# Altium schematic symbol library ESC_SYMBOLS.SchLib: 42 symbols (part 1 of 2)
Pins are listed as number, name and electrical type; pins without a type are passive.

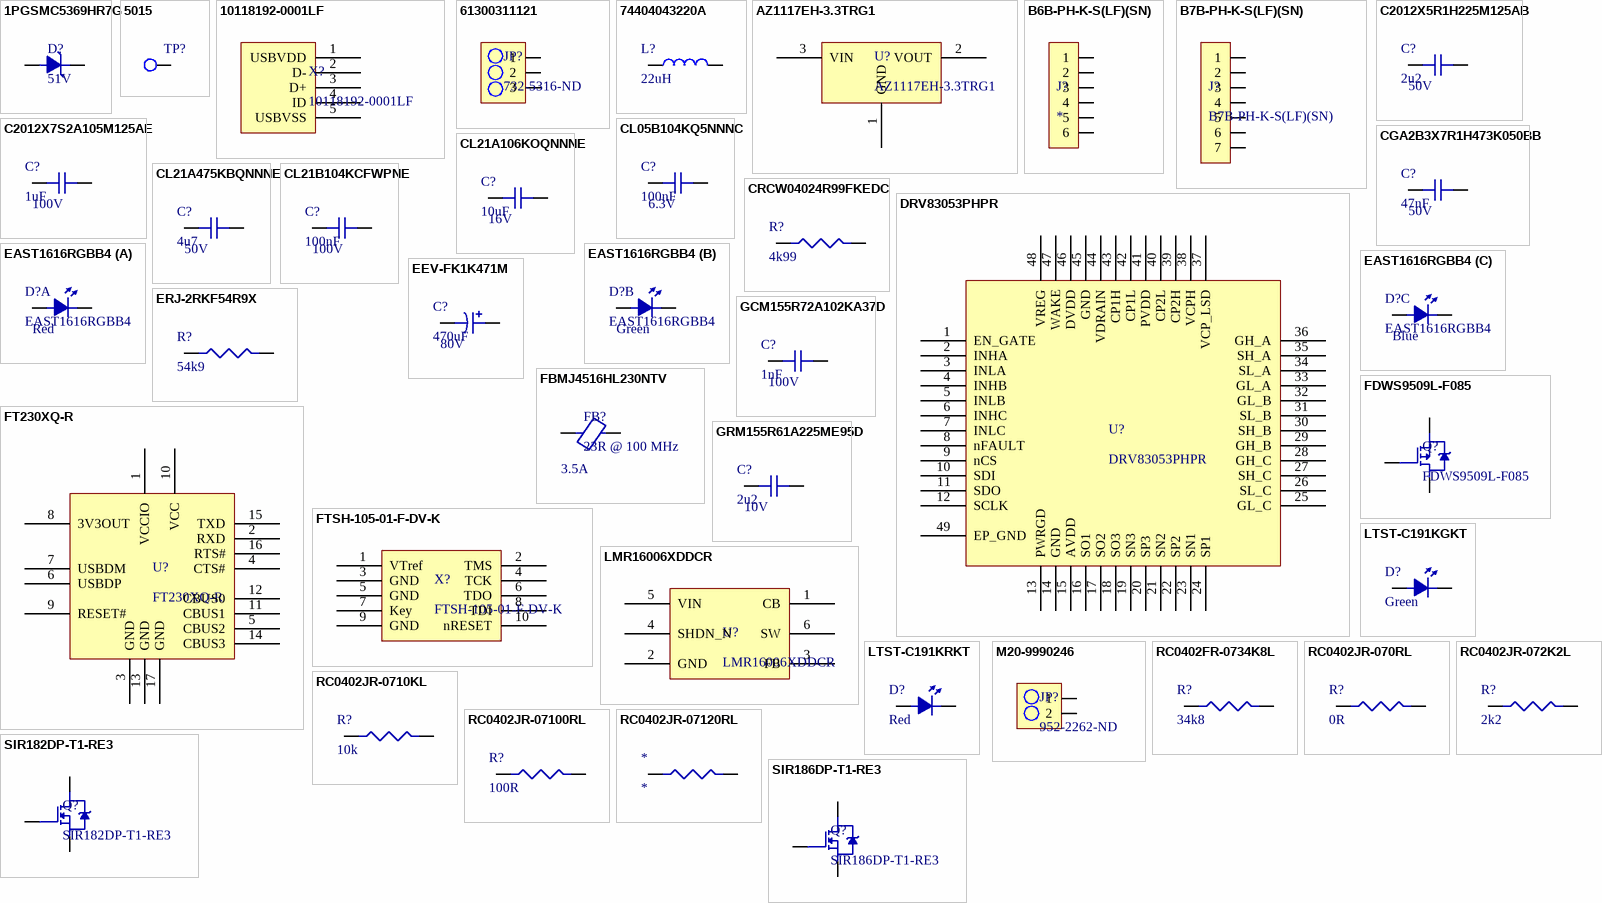
[diagram p0: symbols 1PGSMC5369HR7G to SIR186DP-T1-RE3]

## 1PGSMC5369HR7G
designator D?, comment 51V
DIODE ZENER 51V 5W; Manufacturer: Taiwan Semiconductor; Manufacturer Part Number: 1PGSMC5369HR7G; Supplier 1: Digikey; Stock 1: 1700; Pricing 1: 1=0.87, 10=0.765, 25=0.6772, 100=0.5899, 250=0.5134 (USD); Supplier Part Number 1: 1PGSMC5369HR7GCT-ND
footprint DO-214AB (Molded Diode, 2-Leads, Body 6.85x5.90mm, IPC Medium Density)
pins: 1, 2

## 5015
designator TP?  (value not drawn)
TEST POINT, PCB, SMT; Manufacturer: Keystone Electronics; Number of Ports: 1; Supplier 1: Digi-Key; Manufacturer Part Number: 5015; Stock 1: 1937775; Pricing 1: 1=0.44, 10=0.421, 25=0.3604, 50=0.3064, 100=0.2944, 250=0.2644, 500=0.2524 (USD); Mount: Surface Mount; Colour: White; Contact Material: Bronze; Contact Plating: Tin,Silver,Lead; Material: Bronze,Silver; Package Quantity: 1; Packaging: Tape and Reel; Termination: Solder; Orientation: Straight; Length: 2.66mm; Height: 0.06inch; Thickness: 0.01inch; Depth: 1.01mm; REACH SVHC: No SVHC; Lead Free: Lead Free; ComponentLink1URL: https://datasheet.ciiva.com/2917/5015-2917616.pdf; ComponentLink1Description: https://datasheet.ciiva.com/2917/5015-2917616.pdf; ComponentLink2URL: https://datasheet.ciiva.com/2917/5015-2917617.pdf; ComponentLink2Description: https://datasheet.ciiva.com/2917/5015-2917617.pdf; ComponentLink3URL: https://datasheet.ciiva.com/1123/5015-1123862.pdf; ComponentLink3Description: https://datasheet.ciiva.com/1123/5015-1123862.pdf; ComponentLink4URL: https://datasheet.ciiva.com/16883/70182998-16883734.pdf; ComponentLink4Description: https://datasheet.ciiva.com/16883/70182998-16883734.pdf; Supplier Part Number 1: 36-5015CT-ND
footprint TP_HOOK
pins: 1

## 10118192-0001LF
designator X?
CONN_USB - micro B USB 2.0 Receptacle Connector 5 Position Surface Mount, Right Angle, Horizontal; Manufacturer: Amphenol FCI; Current Rating: 1.8A; Connector Type: USB,Receptacle; Number of Contacts: 5; Insulation Resistance: 1GR; Number of Ports: 1; Max Voltage Rating (AC): 100V; USB Standard: USB 2.0; Pitch: 0.65mm; Supplier 1: Digi-Key; Manufacturer Part Number: 10118192-0001LF; Stock 1: 197826; Pricing 1: 1=0.46, 10=0.437, 25=0.3744, 50=0.318, 100=0.3056, 250=0.2744, 500=0.262 (USD); Mount: Surface Mount,Horizontal; Contact Material: Copper Alloy; Contact Plating: Nickel,Gold; Number of Terminals: 5; Housing Material: Polymer; Colour: Black; Min Operating Temperature: -55°C; Max Operating Temperature: 85°C; Packaging: Tape and Reel; Package Quantity: 1400; Gender: Receptacle; Termination: Solder; Voltage Rating: 100V; Orientation: Right Angle; Length: 7.86mm; Depth: 5.57mm; Radiation Hardening: No; REACH SVHC: No SVHC; Lead Free: Lead Free; Flammability Rating: UL94 V-0; ComponentLink1URL: https://datasheet.ciiva.com/26853/getdatasheetpartid-418041-26853891.pdf; ComponentLink1Description: https://datasheet.ciiva.com/26853/getdatasheetpartid-418041-26853891.pdf; ComponentLink2URL: https://datasheet.ciiva.com/851/10118192-851112.pdf; ComponentLink2Description: https://datasheet.ciiva.com/851/10118192-851112.pdf; ComponentLink3URL: https://datasheet.ciiva.com/4598/10118192ac-197249-4598796.pdf; ComponentLink3Description: https://datasheet.ciiva.com/4598/10118192ac-197249-4598796.pdf; Supplier Part Number 1: 609-4613-1-ND
footprint USB_MICRO
pins: 1 USBVDD, 2 D-, 3 D+, 4 ID, 5 USBVSS

## 61300311121
designator JP?, comment 732-5316-ND
CONN_HeaderPins3pos WURTH ELEKTRONIK Board-To-Board Connector, Vertical, WR-PHD Series, Through Hole, Header, 3 Contacts, 2.54 mm; Manufacturer: Wurth Electronics; Manufacturer Part Number: 61300311121; Number of Positions: 3; Gender: Male; Connector Type: Male Pin; Pitch: 0.1inch; Supplier 1: Digi-Key; Stock 1: 57026; Pricing 1: 1=0.13, 10=0.106, 25=0.088, 50=0.074, 100=0.067, 1000=0.061 (USD); Mount: Through Hole; Case/Package: 100; Contact Plating: Gold; Contact Material: Copper; Colour: Black; Number of Rows: 1; Packaging: Bulk; Termination: Solder; Number of Contacts: 3; Contact Mating Length: 0.236inch; REACH SVHC: Unknown; Lead Free: Lead Free; ComponentLink1URL: http://www.farnell.com/cad/1737268.pdf; ComponentLink1Description: http://www.farnell.com/cad/1737268.pdf; Supplier Part Number 1: 732-5316-ND
footprint 3PIN_HEADER
pins: 1, 2, 3

## 74404043220A
designator L?, comment 22uH
INDUCTOR SHIELDED; Manufacturer: Wurth Electronics; Manufacturer Part Number: 74404043220A; Supplier 1: Digi-Key; Stock 1: 12022; Pricing 1: 1=0.6, 50=0.4958, 100=0.3769, 1000=0.3273 (USD); Supplier Part Number 1: 732-10762-1-ND
footprint INDUCTOR (Precision Wire Wound Inductor, 2-Leads, Body 4.00x4.00mm, IPC Medium Density)
pins: 1, 2

## AZ1117EH-3.3TRG1
designator U?
IC LDO 3V3 1A Voltage Regulators LDO BJT HiCurr; Manufacturer: Diodes; Output Voltage: 3.3V; Dropout Voltage: 1.1V; Number of Regulators: 1; Max Input Voltage: 13V; Operating Supply Current: 3.5mA; Power Supply Rejection Ratio (PSRR): 70dB; Polarity: Positive; Accuracy: 1%; Reference Voltage: 1.262V; Supplier 1: Digi-Key; Manufacturer Part Number: AZ1117EH-3.3TRG1; Stock 1: 105343; Pricing 1: 1=0.43, 10=0.321, 100=0.1815, 500=0.1202, 1000=0.0922 (USD); Mount: Surface Mount; Case/Package: TO-261-4; Number of Pins: 3; Weight: 0.000282oz; Contact Plating: Tin; Min Operating Temperature: -40°C; Max Operating Temperature: 125°C; Packaging: Tape and Reel; Output Current: 1A; Number of Outputs: 1; Package Quantity: 4000; Quiescent Current: 3.5mA; Max Output Current: 1A; Lead Free: Lead Free; Supplier Part Number 1: AZ1117EH-3.3TRG1DICT-ND
footprint SOT223 (SOT223, 4-Leads, Body 6.50x7.00mm (avg), Pitch 2.30mm, IPC Medium Density)
pins: 1 GND, 2 VOUT, 3 VIN

## B6B-PH-K-S(LF)(SN)
designator J?
CONN JST PH 6 Positions Header, Shrouded Connector 0.079" (2.00mm) Through Hole Tin; Manufacturer Part Number: B6B-PH-K-S(LF)(SN); Number of Positions: 6; Connector Type: Male Pin; Contact Resistance: 20mR; Current Rating: 2A; Insulation Resistance: 1MR; Max Voltage Rating (AC): 100V; Gender: Male; Pitch: 2mm; Supplier 1: Digi-Key; Manufacturer: JST; Stock 1: 75035; Pricing 1: 1=0.33, 10=0.313, 100=0.2194, 500=0.1881, 1000=0.1567, 5000=0.1344, 10000=0.1254 (USD); Mount: Through Hole; Number of Pins: 6; Contact Plating: Copper,Tin; Colour: Natural; Contact Material: Brass,Tin; Housing Colour: White; Housing Material: Polyamide; Min Operating Temperature: -25°C; Max Operating Temperature: 85°C; Number of Rows: 1; Packaging: Bulk; Max Current Rating: 2A; Termination: Solder; Number of Contacts: 6; Orientation: Straight; Voltage Rating (AC): 100V; Voltage Rating: 100V; Fastening Type: Detent; Working Voltage: 100V; Number of Poles: 6; Length: 13.9mm; Height: 9.4mm; Width: 4.5mm; Depth: 4.5mm; Lead Pitch: 2mm; Contact Mating Length: 0.13inch; Lead Free: Lead Free; REACH SVHC: No SVHC; ComponentLink1URL: https://datasheet.ciiva.com/712/eph-712563.pdf; ComponentLink1Description: https://datasheet.ciiva.com/712/eph-712563.pdf; ComponentLink2URL: https://datasheet.ciiva.com/26894/getdatasheetpartid-639917-26894487.pdf; ComponentLink2Description: https://datasheet.ciiva.com/26894/getdatasheetpartid-639917-26894487.pdf; ComponentLink3URL: https://datasheet.ciiva.com/11747/0900766b8082f554-11747368.pdf; ComponentLink3Description: https://datasheet.ciiva.com/11747/0900766b8082f554-11747368.pdf; ComponentLink4URL: https://datasheet.ciiva.com/20207/523648-20207241.pdf; ComponentLink4Description: https://datasheet.ciiva.com/20207/523648-20207241.pdf; ComponentLink5URL: https://datasheet.ciiva.com/8052/80560-8052027.pdf; ComponentLink5Description: https://datasheet.ciiva.com/8052/80560-8052027.pdf; Supplier Part Number 1: 455-1708-ND
footprint JST-PH-6
pins: 1, 2, 3, 4, 5, 6

## B7B-PH-K-S(LF)(SN)
designator J?
CONN JST PH 7 Positions JST PH 2.00mm Shrouded Connector 0.079" (2.00mm) Through Hole Tin; Description: 7 Positions Header, Shrouded Connector 0.079" (2.00mm) Through Hole Tin; Number of Positions: 7; Connector Type: Male Pin; Current Rating: 2A; Contact Resistance: 10mR; Insulation Resistance: 1MR; Working Voltage: 100V; Gender: Male; Pitch: 2mm; Supplier 1: Digi-Key; Manufacturer: JST; Manufacturer Part Number: B7B-PH-K-S(LF)(SN); Stock 1: 40323; Pricing 1: 1=0.39, 10=0.37, 100=0.2587, 500=0.2218, 1000=0.1848, 5000=0.1584, 10000=0.1479 (USD); Mount: Through Hole; Number of Pins: 7; Contact Plating: Tin; Color: Natural; Contact Material: Brass,Tin; Housing Color: Natural; Number of Rows: 1; Packaging: Bulk; Termination: Solder; Fastening Type: Detent; Number of Contacts: 7; Orientation: Straight; Number of Poles: 7; Voltage Rating: 100V; Voltage Rating (AC): 100V; Length: 15.9mm; Height: 9.4mm; Width: 4.5mm; Lead Pitch: 2mm; Contact Mating Length: 0.13inch; REACH SVHC: No SVHC; Lead Free: Lead Free; ComponentLink1URL: http://www.jst-mfg.com/product/pdf/eng/ePH.pdf; ComponentLink1Description: http://www.jst-mfg.com/product/pdf/eng/ePH.pdf; ComponentLink2URL: http://www.farnell.com/cad/80560.pdf; ComponentLink2Description: http://www.farnell.com/cad/80560.pdf; ComponentLink3URL: http://www.produktinfo.conrad.com/datenblaetter/725000-749999/740103-da-01-en-STIFTLEISTE_GERADE_7_POL_RM2_0.pdf; ComponentLink3Description: http://www.produktinfo.conrad.com/datenblaetter/725000-749999/740103-da-01-en-STIFTLEISTE_GERADE_7_POL_RM2_0.pdf; Supplier Part Number 1: 455-1709-ND
footprint JST-PH-7
pins: 1, 2, 3, 4, 5, 6, 7

## C2012X5R1H225M125AB
designator C?, comment 2u2  Voltage Rating: 50V
CAP CER 2.2UF 50V X5R 0805; Manufacturer: TDK; Manufacturer Part Number: C2012X5R1H225M125AB; Dielectric Material: Ceramic; Tolerance: 20%; Supplier 1: Digi-Key; Stock 1: 2000; Pricing 1: 1=0.67, 10=0.472, 100=0.3105, 500=0.23, 1000=0.1955 (USD); Mount: Surface Mount; Case/Package: 0805; Weight: 0.000194oz; Case Code (Metric): 2012; Case Code (Imperial): 0805; Min Operating Temperature: -55°C; Max Operating Temperature: 85°C; Packaging: Tape and Reel; Capacitance: 2.2uF; Package Quantity: 1; Voltage Rating (DC): 50V; Dielectric: X5R; Termination: SMD/SMT; Composition: Ceramic; Length: 2mm; Height: 1.25mm; Width: 0.049inch; Thickness: 0.057inch; Depth: 1.25mm; Lead Free: Lead Free; ComponentLink1URL: https://datasheet.ciiva.com/6287/tdkmlcccaprange-6287511.pdf; ComponentLink1Description: https://datasheet.ciiva.com/6287/tdkmlcccaprange-6287511.pdf; ComponentLink2URL: https://datasheet.ciiva.com/6287/tdkmlcccaprange-6287514.pdf; ComponentLink2Description: https://datasheet.ciiva.com/6287/tdkmlcccaprange-6287514.pdf; ComponentLink3URL: https://datasheet.ciiva.com/6287/tdkmlcccaprange-6287516.pdf; ComponentLink3Description: https://datasheet.ciiva.com/6287/tdkmlcccaprange-6287516.pdf; ComponentLink4URL: https://datasheet.ciiva.com/24221/c2012x5r1h225m125ab-265113-24221566.pdf; ComponentLink4Description: https://datasheet.ciiva.com/24221/c2012x5r1h225m125ab-265113-24221566.pdf; Supplier Part Number 1: 445-5977-1-ND
footprint C0805 (Chip Capacitor, 2-Leads, Body 2.00x1.25mm, IPC Medium Density)
pins: 1, 2

## C2012X7S2A105M125AE
designator C?, comment 1uF  Voltage Rating: 100V
CAP CER 1UF 100V X7S 0805; Manufacturer: TDK; Manufacturer Part Number: C2012X7S2A105M125AE; Tolerance: 20%; Supplier 1: Digi-Key; Stock 1: 20000; Pricing 1: 1=0.5, 10=0.356, 100=0.2347, 500=0.1739, 1000=0.1478 (USD); Mount: Surface Mount; Case/Package: 0805; Weight: 0.000194oz; Case Code (Imperial): 0805; Case Code (Metric): 2012; Min Operating Temperature: -55°C; Max Operating Temperature: 125°C; Capacitance: 1uF; Voltage Rating (DC): 100V; Packaging: Tape and Reel; Package Quantity: 1; Dielectric: X7S; Termination: SMD/SMT; Composition: Ceramic; Length: 2mm; Height: 1.45mm; Width: 1.2mm; Thickness: 0.057inch; Lead Free: Lead Free; ComponentLink1URL: https://datasheet.ciiva.com/24216/c2012x7s2a105m125ae-265183-24216851.pdf; ComponentLink1Description: https://datasheet.ciiva.com/24216/c2012x7s2a105m125ae-265183-24216851.pdf; ComponentLink2URL: https://datasheet.ciiva.com/6287/mlcc-commercial-soft-en-6287845.pdf; ComponentLink2Description: https://datasheet.ciiva.com/6287/mlcc-commercial-soft-en-6287845.pdf; ComponentLink3URL: https://datasheet.ciiva.com/6287/mlcc-commercial-soft-en-6287849.pdf; ComponentLink3Description: https://datasheet.ciiva.com/6287/mlcc-commercial-soft-en-6287849.pdf; ComponentLink4URL: https://datasheet.ciiva.com/6287/mlcc-commercial-soft-en-6287854.pdf; ComponentLink4Description: https://datasheet.ciiva.com/6287/mlcc-commercial-soft-en-6287854.pdf; Supplier Part Number 1: 445-6804-1-ND
footprint C0805 (Chip Capacitor, 2-Leads, Body 2.00x1.25mm, IPC Medium Density)
pins: 1, 2

## CGA2B3X7R1H473K050BB
designator C?, comment 47nF  Voltage Rating: 50V
CAP CER 0.047uF 50 V,  10%, X7R, CGA Series; Manufacturer: TDK; Manufacturer Part Number: CGA2B3X7R1H473K050BB; Supplier 1: Digi-Key; Stock 1: 76108; Pricing 1: 1=0.13, 10=0.099, 100=0.0439, 500=0.0314, 1000=0.0247, 2500=0.0224, 5000=0.0206 (USD); Mount: Surface Mount; Case/Package: 0402; Weight: 2.3E-05oz; Case Code (Metric): 1005; Case Code (Imperial): 0402; Min Operating Temperature: -55°C; Max Operating Temperature: 125°C; Capacitance: 47nF; Tolerance: 10%; Voltage Rating (DC): 50V; Packaging: Tape and Reel; Package Quantity: 1; Dielectric: X7R; Termination: SMD/SMT; Composition: Ceramic; Length: 1mm; Height: 0.5mm; Width: 0.02inch; Thickness: 0.022inch; Depth: 0.5mm; Ratings: AEC-Q200; Radiation Hardening: No; REACH SVHC: No SVHC; Lead Free: Lead Free; Supplier Part Number 1: 445-6897-1-ND
footprint C0402 (Chip Capacitor, 2-Leads, Body 1.00x0.50mm, IPC Medium Density)
pins: 1, 2

## CL05B104KQ5NNNC
designator C?, comment 100nF  Voltage Rating: 6.3V
CAP CER 0.1uF 6.3V X7R 10% SMD 0402 125C Paper T/R; Manufacturer: Samsung; Manufacturer Part Number: CL05B104KQ5NNNC; Supplier 1: Digi-Key; Stock 1: 100000; Pricing 1: 1=0.1, 10=0.03, 100=0.0134, 500=0.0096, 1000=0.0075, 2500=0.0068, 5000=0.0063 (USD); Mount: Surface Mount; Case/Package: 0402; Case Code (Metric): 1005; Case Code (Imperial): 0402; Min Operating Temperature: -55°C; Max Operating Temperature: 125°C; Tolerance: 10%; Packaging: Tape and Reel; Capacitance: 100nF; Dielectric: X7R; Voltage Rating (DC): 6.3V; Length: 1mm; Height: 0.5mm; Width: 0.02inch; Thickness: 0.022inch; Depth: 0.5mm; Radiation Hardening: No; Lead Free: Lead Free; Supplier Part Number 1: 1276-1511-1-ND
footprint C0402 (Chip Capacitor, 2-Leads, Body 1.00x0.50mm, IPC Medium Density)
pins: 1, 2

## CL21A106KOQNNNE
designator C?, comment 10uF  Voltage Rating: 16V
CAP CER 10uF 16V X5R 10% SMD 0805 85C T/R; Manufacturer: Samsung; Manufacturer Part Number: CL21A106KOQNNNE; Dielectric: X7R; Supplier 1: Digi-Key; Stock 1: 20000; Pricing 1: 1=0.21, 10=0.148, 100=0.0698, 500=0.0489, 1000=0.0405 (USD); Mount: Surface Mount; Case/Package: 0805; Case Code (Metric): 2012; Case Code (Imperial): 0805; Min Operating Temperature: -55°C; Max Operating Temperature: 85°C; Package Quantity: 1; Packaging: Tape and Reel; Capacitance: 10uF; Tolerance: 10%; Voltage Rating (DC): 16V; Voltage: 16V; Length: 2mm; Height: 1.25mm; Width: 0.049inch; Thickness: 0.055inch; Depth: 1.25mm; Radiation Hardening: No; Lead Free: Lead Free; ComponentLink1URL: https://datasheet.ciiva.com/25798/cl21a106koqnnne-25798133.pdf; ComponentLink1Description: https://datasheet.ciiva.com/25798/cl21a106koqnnne-25798133.pdf; ComponentLink2URL: https://datasheet.ciiva.com/16740/cl05b104kq5nnnc-16740697.pdf; ComponentLink2Description: https://datasheet.ciiva.com/16740/cl05b104kq5nnnc-16740697.pdf; ComponentLink3URL: https://datasheet.ciiva.com/15216/getdatasheetpartid-358435-15216234.pdf; ComponentLink3Description: https://datasheet.ciiva.com/15216/getdatasheetpartid-358435-15216234.pdf; Supplier Part Number 1: 1276-1096-1-ND
footprint C0805 (Chip Capacitor, 2-Leads, Body 2.00x1.25mm, IPC Medium Density)
pins: 1, 2

## CL21A475KBQNNNE
designator C?, comment 4u7  Voltage Rating: 50V
CAP CER 4.7uF 50V X5R 10% SMD 0805 85C Embossed T/R; Manufacturer: Samsung; Manufacturer Part Number: CL21A475KBQNNNE; Supplier 1: Digi-Key; Stock 1: 20000; Pricing 1: 1=0.44, 10=0.309, 100=0.1854, 500=0.1391, 1000=0.1174 (USD); Mount: Surface Mount; Case/Package: 0805; Case Code (Metric): 2012; Case Code (Imperial): 0805; Min Operating Temperature: -55°C; Max Operating Temperature: 85°C; Tolerance: 10%; Packaging: Tape and Reel; Package Quantity: 1; Capacitance: 4.7uF; Dielectric: X5R; Length: 2mm; Width: 0.049inch; Thickness: 0.055inch; Depth: 1.25mm; Radiation Hardening: No; ComponentLink1URL: https://datasheet.ciiva.com/25797/cl21a475kbqnnne-25797730.pdf; ComponentLink1Description: https://datasheet.ciiva.com/25797/cl21a475kbqnnne-25797730.pdf; ComponentLink2URL: https://datasheet.ciiva.com/26838/getdatasheetpartid-470982-26838620.pdf; ComponentLink2Description: https://datasheet.ciiva.com/26838/getdatasheetpartid-470982-26838620.pdf; ComponentLink3URL: https://datasheet.ciiva.com/16428/cl21a475kbqnnne-16428877.pdf; ComponentLink3Description: https://datasheet.ciiva.com/16428/cl21a475kbqnnne-16428877.pdf; Supplier Part Number 1: 1276-1248-1-ND
footprint C0805 (Chip Capacitor, 2-Leads, Body 2.00x1.25mm, IPC Medium Density)
pins: 1, 2

## CL21B104KCFWPNE
designator C?, comment 100nF  Voltage Rating: 100V
CAP CER 0.10µF 100V Ceramic Capacitor X7R 0805 (2012 Metric) 0.079" L x 0.049" W (2.00mm x 1.25mm); Manufacturer: Samsung; Manufacturer Part Number: CL21B104KCFWPNE; Tolerance: 10%; Supplier 1: Digi-Key; Stock 1: 6000; Pricing 1: 1=0.17, 10=0.118, 100=0.0556, 500=0.039, 1000=0.0323 (USD); Mount: Surface Mount; Case/Package: 0805; Case Code (Metric): 2012; Case Code (Imperial): 0805; Min Operating Temperature: -55°C; Max Operating Temperature: 125°C; Packaging: Tape and Reel; Capacitance: 100nF; Length: 0.079inch; Width: 0.049inch; Thickness: 0.053inch; Supplier Part Number 1: 1276-6733-1-ND
footprint C0805 (Chip Capacitor, 2-Leads, Body 2.00x1.25mm, IPC Medium Density)
pins: 1, 2

## CRCW04024R99FKEDC
designator R?, comment 4k99
RES SMD 4.99K OHM 1/16W 0402; Manufacturer: Vishay; Manufacturer Part Number: CRCW04024R99FKEDC; Supplier 1: Digi-Key; Stock 1: 7980; Pricing 1: 1=0.1, 10=0.093, 100=0.0358, 1000=0.0157, 2500=0.0136, 5000=0.0122 (USD); Supplier Part Number 1: 541-4085-1-ND
footprint R0402 (Chip Resistor, 2-Leads, Body 1.00x0.50mm, IPC Medium Density)
pins: 1, 2

## DRV83053PHPR
designator U?
IC 3-Phase Gate Driver IC 4.4V to 45V 48-Pin HTQFP T/R; Manufacturer: Texas Instruments; Number of Drivers: 6; Number of Outputs: 1; Output Current: 80mA; Max Output Current: 1A; Supplier 1: Digi-Key; Manufacturer Part Number: DRV83053PHPR; Stock 1: 2033; Pricing 1: 1=5.04, 10=4.53, 100=3.7117, 500=3.1597 (USD); Mount: Surface Mount; Number of Pins: 48; Min Operating Temperature: -40°C; Max Operating Temperature: 125°C; Packaging: Cut Tape; Channel Type: 3-Phase; Type: Integrated Circuit (IC); Min Supply Voltage: 4.4V; Max Supply Voltage: 45V; REACH SVHC: No SVHC; Lead Free: Lead Free; ComponentLink1URL: http://www.ti.com/general/docs/lit/getliterature.tsp?genericPartNumber=DRV8305&&fileType=pdf; ComponentLink1Description: http://www.ti.com/general/docs/lit/getliterature.tsp?genericPartNumber=DRV8305&&fileType=pdf; ComponentLink2URL: http://www.ti.com/lit/pdf/slyb165; ComponentLink2Description: http://www.ti.com/lit/pdf/slyb165; ComponentLink3URL: http://www.farnell.com/datasheets/2075775.pdf; ComponentLink3Description: http://www.farnell.com/datasheets/2075775.pdf; Supplier Part Number 1: 296-42657-1-ND
footprint PQFP_EP-48 (TSQFP, 48-Leads, Body 7.00x7.00mm, Pitch 0.50mm, Thermal Pad 5.17x5.17mm, IPC Medium Density)
pins: 1 EN_GATE, 2 INHA, 3 INLA, 4 INHB, 5 INLB, 6 INHC, 7 INLC, 8 nFAULT, 9 nCS, 10 SDI, 11 SDO, 12 SCLK, 13 PWRGD, 14 GND, 15 AVDD, 16 SO1, 17 SO2, 18 SO3, 19 SN3, 20 SP3, 21 SN2, 22 SP2, 23 SN1, 24 SP1, 25 GL_C, 26 SL_C, 27 SH_C, 28 GH_C, 29 GH_B, 30 SH_B, 31 SL_B, 32 GL_B, 33 GL_A, 34 SL_A, 35 SH_A, 36 GH_A, 37 VCP_LSD, 38 VCPH, 39 CP2H, 40 CP2L, 41 PVDD, 42 CP1L, 43 CP1H, 44 VDRAIN, 45 GND, 46 DVDD, 47 WAKE, 48 VREG, 49 EP_GND

## EAST1616RGBB4
designator D?
LED TRICOLOR RED GREEN BLUE; Manufacturer: Everlight; Supplier 1: Digi-Key; Manufacturer Part Number: EAST1616RGBB4; Stock 1: 0; Supplier Part Number 1: 1080-1552-2-ND
footprint LED_TRICOLOR
part A pins: 1, 4
part B pins: 2, 4
part C pins: 3, 4
part A text: Red
part B text: Green
part C text: Blue

## EEV-FK1K471M
designator C?, comment 470uF  Voltage: 80V
Cap Aluminum Lytic 470uF 80V 20% (18 X 16.5mm) SMD 0.153 Ohm 917mA 2000h 105C T/R; Manufacturer: Panasonic; Manufacturer Part Number: EEV-FK1K471M; Dielectric Material: Aluminium; ESR (Equivalent Series Resistance): 153mR; Life (Hours): 2000Hour; Leakage Current: 3uA; Dissipation Factor: 0.08%; Supplier 1: Digi-Key; Stock 1: 18111; Pricing 1: 1=2.39, 10=1.93 (USD); Mount: Surface Mount,PCB; Case/Package: Radial; Number of Pins: 2; Min Operating Temperature: -55°C; Max Operating Temperature: 105°C; Capacitance: 470uF; Packaging: Tape and Reel; Package Quantity: 1; Tolerance: 20%; Voltage Rating: 80V; Voltage Rating (DC): 80V; Ripple Current: 917mA; Ripple Current (AC): 917mA; Impedance: 153mR; Termination: SMD/SMT; Diameter: 18mm; Length: 16.5mm; Height: 16.5mm; Height - Seated (Max): 0.65inch; Width: 1.2mm; Radiation Hardening: No; REACH SVHC: No SVHC; Lead Free: Lead Free; ComponentLink1URL: https://datasheet.ciiva.com/17533/aba0000ce120-17533511.pdf; ComponentLink1Description: https://datasheet.ciiva.com/17533/aba0000ce120-17533511.pdf; ComponentLink2URL: https://datasheet.ciiva.com/2984/aba0000ce120-2984088.pdf; ComponentLink2Description: https://datasheet.ciiva.com/2984/aba0000ce120-2984088.pdf; ComponentLink3URL: https://datasheet.ciiva.com/14603/70258115-14603897.pdf; ComponentLink3Description: https://datasheet.ciiva.com/14603/70258115-14603897.pdf; ComponentLink4URL: https://datasheet.ciiva.com/30158/eev-fkseries-30158795.pdf; ComponentLink4Description: https://datasheet.ciiva.com/30158/eev-fkseries-30158795.pdf; ComponentLink5URL: https://datasheet.ciiva.com/11783/0900766b80e4e8b0-11783532.pdf; ComponentLink5Description: https://datasheet.ciiva.com/11783/0900766b80e4e8b0-11783532.pdf; ComponentLink6URL: https://datasheet.ciiva.com/43485/1676921-43485532.pdf; ComponentLink6Description: https://datasheet.ciiva.com/43485/1676921-43485532.pdf; ComponentLink7URL: https://datasheet.ciiva.com/48483/aba0000ce120-48483340.pdf; ComponentLink7Description: https://datasheet.ciiva.com/48483/aba0000ce120-48483340.pdf; ComponentLink8URL: https://datasheet.ciiva.com/14606/70258115-14606333.pdf; ComponentLink8Description: https://datasheet.ciiva.com/14606/70258115-14606333.pdf; Supplier Part Number 1: PCE3496CT-ND
footprint CAPAE (Aluminum Electrolytic Capacitor, Body 19.00x19.00x17.00mm, IPC Low Density)
pins: 1, 2

## ERJ-2RKF54R9X
designator R?, comment 54k9
RES SMD 54.9K OHM 1/10W 0402 54.9 Ohm 1% 0.1W(1/10W) ±100ppm/C Molded SMD Automotive Punched T/R; Manufacturer: Panasonic; Manufacturer Part Number: ERJ-2RKF54R9X; Resistance: 54.9R; Power Rating: 100mW; Voltage Rating: 50V; Temperature Coefficient: 100ppm/°C; Supplier 1: Digi-Key; Stock 1: 343302; Pricing 1: 1=0.1, 10=0.056, 100=0.0227, 1000=0.0102, 2500=0.0089, 5000=0.0073 (USD); Mount: Surface Mount; Case/Package: 0402; Case Code (Metric): 1005; Case Code (Imperial): 0402; Contact Plating: Tin; Min Operating Temperature: -55°C; Max Operating Temperature: 155°C; Tolerance: 1%; Packaging: Tape and Reel; Package Quantity: 1; Composition: Thick Film; Number of Terminations: 2; Termination: SMD/SMT; Military Standard: Not; Max Power Dissipation: 100mW; Voltage Rating (DC): 50V; Features: Automotive AEC-Q200; Length: 1mm; Height: 0.016inch; Width: 0.02inch; Depth: 0.5mm; REACH SVHC: No SVHC; Lead Free: Lead Free; Supplier Part Number 1: P54.9LCT-ND
footprint R0402 (Chip Resistor, 2-Leads, Body 1.00x0.50mm, IPC Medium Density)
pins: 1, 2

## FBMJ4516HL230NTV
designator FB?, comment 23R @ 100 MHz  Max Current Rating: 3.5A
FERRITE BEAD Ind Chip Bead Multi-Layer 23Ohm 30% 100MHz Ferrite 3.5A 1806 T/R; Manufacturer: Taiyo Yuden; Manufacturer Part Number: FBMJ4516HL230NTV; Resistance: 180623R; Number of Lines: 1; DC Resistance (DCR): 14mR; Supplier 1: Digi-Key; Stock 1: 1819; Pricing 1: 1=0.26, 10=0.202, 25=0.1676, 50=0.1444, 100=0.1299, 250=0.1097, 500=0.0982, 1000=0.0837 (USD); Mount: Surface Mount; Case/Package: 1806; Core Material: Ferrite; Case Code (Metric): 4516; Case Code (Imperial): 1806; Min Operating Temperature: -40°C; Max Operating Temperature: 125°C; Tolerance: 30%; Impedance: 23R; Package Quantity: 2000; Packaging: Tape and Reel; Max DC Current: 3.5A; Termination: SMD/SMT; Test Frequency: 100MHz; Length: 0.177inch; Height: 1.1mm; Width: 1.6mm; Depth: 1.6mm; ComponentLink1URL: http://www.mouser.com/ds/2/396/chipbeads01_e-559265.pdf; ComponentLink1Description: http://www.mouser.com/ds/2/396/chipbeads01_e-559265.pdf; ComponentLink2URL: http://ds.yuden.co.jp/TYCOMPAS/ut/detail.do?productNo=FBMJ4516HL230NTV&fileName=FBMJ4516HL230NTV_SS&mode=specSheetDownload; ComponentLink2Description: http://ds.yuden.co.jp/TYCOMPAS/ut/detail.do?productNo=FBMJ4516HL230NTV&fileName=FBMJ4516HL230NTV_SS&mode=specSheetDownload; ComponentLink3URL: https://www.yuden.co.jp/ut/product/category/emisuppression/FBMJ4516HL230NTV_SS.pdf; ComponentLink3Description: https://www.yuden.co.jp/ut/product/category/emisuppression/FBMJ4516HL230NTV_SS.pdf; Supplier Part Number 1: 587-3857-1-ND
footprint FB_1806 (Chip Inductor, 2-Leads, Body 4.50x1.60mm, IPC Medium Density)
pins: 1, 2

## FDWS9509L-F085
designator Q?
MOSFET P-CH PWR56 40V 8 MOHM; Manufacturer: ON Semiconductor; Supplier 1: Digi-Key; Manufacturer Part Number: FDWS9509L-F085; Stock 1: 2417; Pricing 1: 1=1.76, 10=1.562, 100=1.2344, 500=0.9573, 1000=0.7558 (USD); Supplier Part Number 1: FDWS9509L-F085OSCT-ND
footprint SO-8 PowerPAK
pins: 1, 2, 3

## FT230XQ-R
designator U?
IC USB SERIAL BASIC UART 16QFN; Manufacturer: FTDI; Operating Supply Voltage: 5V; Data Rate: 12Mbps; Number of Channels: 1; Max Supply Voltage: 5.5V; Min Supply Voltage: 2.97V; Interface: USB,UART; Operating Supply Current: 8mA; Supplier 1: Digi-Key; Manufacturer Part Number: FT230XQ-R; Stock 1: 185744; Pricing 1: 1=2.04, 25=1.97, 100=1.9, 250=1.71, 500=1.54, 1000=1.4806 (USD); Mount: Surface Mount; Case/Package: QFN; Number of Pins: 16; Weight: 0.002014oz; Min Operating Temperature: -40°C; Max Operating Temperature: 85°C; Packaging: Tape and Reel; Package Quantity: 5000; Length: 4mm; Height: 0.75mm; Width: 4mm; Lead Free: Lead Free; ComponentLink1URL: https://datasheet.ciiva.com/16213/ds-ft230x-16213755.pdf; ComponentLink1Description: https://datasheet.ciiva.com/16213/ds-ft230x-16213755.pdf; ComponentLink2URL: https://datasheet.ciiva.com/48909/70403914-48909084.pdf; ComponentLink2Description: https://datasheet.ciiva.com/48909/70403914-48909084.pdf; ComponentLink3URL: https://datasheet.ciiva.com/1787/ft-x-series-1787309.pdf; ComponentLink3Description: https://datasheet.ciiva.com/1787/ft-x-series-1787309.pdf; ComponentLink4URL: https://datasheet.ciiva.com/1787/ft-x-series-1787310.pdf; ComponentLink4Description: https://datasheet.ciiva.com/1787/ft-x-series-1787310.pdf; ComponentLink5URL: https://datasheet.ciiva.com/1787/ft-x-series-1787311.pdf; ComponentLink5Description: https://datasheet.ciiva.com/1787/ft-x-series-1787311.pdf; ComponentLink6URL: https://datasheet.ciiva.com/30478/0900766b811020cb-30478159.pdf; ComponentLink6Description: https://datasheet.ciiva.com/30478/0900766b811020cb-30478159.pdf; Supplier Part Number 1: 768-1130-1-ND
footprint QFN_EP-16 (QFN, 16-Leads, Body 4.00x4.00mm, Pitch 0.65mm, Thermal Pad 2.10x2.10mm, IPC Medium Density)
pins: 1 VCCIO, 2 RXD, 3 GND, 4 CTS#, 5 CBUS2, 6 USBDP, 7 USBDM, 8 3V3OUT, 9 RESET#, 10 VCC, 11 CBUS1, 12 CBUS0, 13 GND, 14 CBUS3, 15 TXD, 16 RTS#, 17 GND

## FTSH-105-01-F-DV-K
designator X?
CONN_JTAG_10pin .050 Connector Dual Header 10 Position Surface Mount; Manufacturer: Samtec; Max Current Rating: 1.75A; Number of Positions: 10; Connector Type: Male Pin; Pitch: 1.27mm; Row Spacing: 0.05inch; Supplier 1: Digi-Key; Manufacturer Part Number: FTSH-105-01-F-DV-K; Stock 1: 18199; Pricing 1: 1=2.9, 10=2.784, 100=2.32, 500=1.972, 1000=1.682, 5000=1.508 (USD); Mount: Surface Mount; Contact Material: Bronze,Copper; Contact Plating: Nickel,Gold; Colour: Black; Housing Colour: Black; Housing Material: Polymer; Min Operating Temperature: -55°C; Max Operating Temperature: 125°C; Number of Rows: 2; Packaging: Rail/Tube; Package Quantity: 1; Termination: Solder; Number of Contacts: 10; Orientation: Straight; Length: 15.2mm; Height: 3.3mm; Contact Mating Length: 0.12inch; Depth: 3.43mm; Radiation Hardening: No; Lead Free: Lead Free; ComponentLink1URL: https://datasheet.ciiva.com/19461/2046846-19461026.pdf; ComponentLink1Description: https://datasheet.ciiva.com/19461/2046846-19461026.pdf; ComponentLink2URL: https://datasheet.ciiva.com/738/ftsh-1xx-xx-xxx-dv-xxx-mkt-738998.pdf; ComponentLink2Description: https://datasheet.ciiva.com/738/ftsh-1xx-xx-xxx-dv-xxx-mkt-738998.pdf; ComponentLink3URL: https://datasheet.ciiva.com/10245/ftsh-mt-10245273.pdf; ComponentLink3Description: https://datasheet.ciiva.com/10245/ftsh-mt-10245273.pdf; ComponentLink4URL: https://datasheet.ciiva.com/16657/ftsh-mt-16657371.pdf; ComponentLink4Description: https://datasheet.ciiva.com/16657/ftsh-mt-16657371.pdf; ComponentLink5URL: https://datasheet.ciiva.com/15195/getdatasheetpartid-133463-15195260.pdf; ComponentLink5Description: https://datasheet.ciiva.com/15195/getdatasheetpartid-133463-15195260.pdf; Supplier Part Number 1: SAM8796-ND
footprint JTAG_50mil_10pin
pins: 1 VTref, 2 TMS, 3 GND, 4 TCK, 5 GND, 6 TDO, 7 Key, 8 TDI, 9 GND, 10 nRESET

## GCM155R72A102KA37D
designator C?, comment 1nF  Voltage: 100V
CAP CER 1000PF 100V X7R 0402; Manufacturer: Murata; Manufacturer Part Number: GCM155R72A102KA37D; Tolerance: 10%; Supplier 1: Digi-Key; Stock 1: 100000; Pricing 1: 1=0.1, 10=0.058, 100=0.026, 500=0.0186, 1000=0.0146, 2500=0.0133, 5000=0.0122 (USD); Mount: Surface Mount; Case/Package: 0402; Case Code (Metric): 1005; Case Code (Imperial): 0402; Min Operating Temperature: -55°C; Max Operating Temperature: 125°C; Package Quantity: 1; Capacitance: 1nF; Voltage Rating: 100V; Packaging: Tape and Reel; Dielectric: X7R; Voltage Rating (DC): 100V; Termination: SMD/SMT; Length: 1mm; Height: 0.5mm; Width: 0.02inch; Thickness: 0.022inch; Depth: 0.5mm; Ratings: AEC-Q200; Radiation Hardening: No; REACH SVHC: No SVHC; Supplier Part Number 1: 490-4764-1-ND
footprint C0402 (Chip Capacitor, 2-Leads, Body 1.00x0.50mm, IPC Medium Density)
pins: 1, 2

## GRM155R61A225ME95D
designator C?, comment 2u2  Voltage Rating: 10V
CAP CER 2.2uF 10V X5R 20% SMD 0402 85C Paper T/R; Manufacturer: Murata; Manufacturer Part Number: GRM155R61A225ME95D; Supplier 1: Digi-Key; Stock 1: 100000; Pricing 1: 1=0.13, 10=0.096, 100=0.045, 500=0.0316, 1000=0.0261, 2500=0.0243, 5000=0.0223 (USD); Mount: Surface Mount; Case/Package: 0402; Case Code (Metric): 1005; Case Code (Imperial): 0402; Min Operating Temperature: -55°C; Max Operating Temperature: 85°C; Tolerance: 20%; Packaging: Tape and Reel; Dielectric: X5R; Capacitance: 2.2uF; Voltage Rating (DC): 10V; Length: 0.039inch; Width: 0.02inch; Thickness: 0.022inch; Depth: 0.5mm; Supplier Part Number 1: 490-10452-1-ND
footprint C0402 (Chip Capacitor, 2-Leads, Body 1.00x0.50mm, IPC Medium Density)
pins: 1, 2

## LMR16006XDDCR
designator U?
IC BUCK 3V3 REGULATOR 0.6A Conv DC-DC 1-OUT Step Down 4V 60V 6-Pin SOT T/R; Manufacturer: Texas Instruments; Number of Outputs: 1; Output Voltage: 55V; Max Output Current: 600mA; Min Output Voltage: 765mV; Switching Frequency: 700kHz; Synchronous Rectifier: No; Quiescent Current: 28uA; Supplier 1: Digi-Key; Manufacturer Part Number: LMR16006XDDCR; Stock 1: 5; Pricing 1: 1=2.88, 10=2.589, 100=2.121, 500=1.8055, 1000=1.5228 (USD); Mount: Surface Mount; Case/Package: SOT-23-6; Number of Pins: 6; Contact Plating: Nickel,Gold; Min Operating Temperature: -40°C; Max Operating Temperature: 125°C; Min Input Voltage: 4V; Max Input Voltage: 60V; Packaging: Tape and Reel; Max Output Voltage: 55V; Output Current: 600mA; Operating Supply Voltage: 60V; REACH SVHC: No SVHC; Lead Free: Lead Free; Supplier Part Number 1: 296-40293-1-ND
footprint SOT23-6_Lead (SOT23, 6-Leads, Body 2.90x2.80mm, Pitch 0.95mm, IPC Medium Density)
pins: 1 CB, 2 GND, 3 FB, 4 SHDN_N, 5 VIN, 6 SW

## LTST-C191KGKT
designator D?, comment Green
LED GREEN CLEAR 0603 SMD; Manufacturer: Vishay Lite-On; Manufacturer Part Number: LTST-C191KGKT; Lens Colour: Clear,Colorless; Power Rating: 75mW; Luminous Intensity: 35mcd; Viewing Angle: 130°; Lens Style: Clear,Diffused,Colorless,Rectangular; Forward Current: 30mA; Forward Voltage: 2V; Dominant Wavelength: 571nm; Test Current: 20mA; Number of Elements: 1; Wavelength: 574nm; Supplier 1: Digi-Key; Stock 1: 1301664; Pricing 1: 1=0.29, 10=0.211, 25=0.1556, 100=0.1111, 250=0.0756, 500=0.0667, 1000=0.0522, 2500=0.0511 (USD); Mount: Surface Mount; Case/Package: 0603; Number of Pins: 2; Colour: Green; Case Code (Metric): 1608; Case Code (Imperial): 0603; Min Operating Temperature: -55°C; Max Operating Temperature: 85°C; Packaging: Tape and Reel; Package Quantity: 1; Illumination Colour: Green; Lens Transparency: Clear; Power Dissipation: 75mW; Number of LEDs: 1; Length: 1.6mm; Height: 0.55mm; Width: 0.8mm; Depth: 0.8mm; Radiation Hardening: No; Lead Free: Lead Free; ComponentLink1URL: https://datasheet.ciiva.com/12400/100-ltst-c191kgkt-53586-12400818.pdf; ComponentLink1Description: https://datasheet.ciiva.com/12400/100-ltst-c191kgkt-53586-12400818.pdf; ComponentLink2URL: https://datasheet.ciiva.com/2109/s-110-ltst-c191kgkt-2109973.pdf; ComponentLink2Description: https://datasheet.ciiva.com/2109/s-110-ltst-c191kgkt-2109973.pdf; ComponentLink3URL: https://datasheet.ciiva.com/2109/s-110-ltst-c191kgkt-2109974.pdf; ComponentLink3Description: https://datasheet.ciiva.com/2109/s-110-ltst-c191kgkt-2109974.pdf; ComponentLink4URL: https://datasheet.ciiva.com/2109/s-110-ltst-c191kgkt-2109975.pdf; ComponentLink4Description: https://datasheet.ciiva.com/2109/s-110-ltst-c191kgkt-2109975.pdf; ComponentLink5URL: https://datasheet.ciiva.com/15223/getdatasheetpartid-103913-15223276.pdf; ComponentLink5Description: https://datasheet.ciiva.com/15223/getdatasheetpartid-103913-15223276.pdf; ComponentLink6URL: https://datasheet.ciiva.com/11773/0900766b80dc02b1-11773629.pdf; ComponentLink6Description: https://datasheet.ciiva.com/11773/0900766b80dc02b1-11773629.pdf; ComponentLink7URL: https://datasheet.ciiva.com/16215/ltst-c191kgkt-16215151.pdf; ComponentLink7Description: https://datasheet.ciiva.com/16215/ltst-c191kgkt-16215151.pdf; Supplier Part Number 1: 160-1446-6-ND
footprint LED_0603
pins: 1, 2

## LTST-C191KRKT
designator D?, comment Red
LED RED CLEAR 0603 SMD; Manufacturer: Vishay Lite-On; Manufacturer Part Number: LTST-C191KRKT; Lens Colour: Colorless; Power Rating: 75mW; Luminous Intensity: 54mcd; Viewing Angle: 130°; Forward Voltage: 2V; Lens Style: Clear,Diffused,Colorless,Rectangular; Forward Current: 30mA; Dominant Wavelength: 631nm; Test Current: 20mA; Number of Elements: 1; Wavelength: 639nm; Reverse Voltage: 5V; Supplier 1: Digi-Key; Stock 1: 684119; Pricing 1: 1=0.29, 10=0.211, 25=0.1556, 100=0.1111, 250=0.0756, 500=0.0667, 1000=0.0522, 2500=0.0511 (USD); Mount: Surface Mount; Case/Package: 0603; Number of Pins: 2; Colour: Red; Case Code (Metric): 1608; Case Code (Imperial): 0603; Min Operating Temperature: -55°C; Max Operating Temperature: 85°C; Packaging: Tape and Reel; Package Quantity: 1; Illumination Colour: Red; Lens Transparency: Clear; Power Dissipation: 75mW; Number of LEDs: 1; Voltage: 2V; Length: 1.6mm; Height: 0.55mm; Width: 0.8mm; Depth: 0.8mm; Radiation Hardening: No; Lead Free: Lead Free; ComponentLink1URL: https://datasheet.ciiva.com/11773/0900766b80dc02b2-11773601.pdf; ComponentLink1Description: https://datasheet.ciiva.com/11773/0900766b80dc02b2-11773601.pdf; ComponentLink2URL: https://datasheet.ciiva.com/2109/s-110-ltst-c191krkt-2109970.pdf; ComponentLink2Description: https://datasheet.ciiva.com/2109/s-110-ltst-c191krkt-2109970.pdf; ComponentLink3URL: https://datasheet.ciiva.com/2109/s-110-ltst-c191krkt-2109971.pdf; ComponentLink3Description: https://datasheet.ciiva.com/2109/s-110-ltst-c191krkt-2109971.pdf; ComponentLink4URL: https://datasheet.ciiva.com/16212/ltst-c191krkt-16212419.pdf; ComponentLink4Description: https://datasheet.ciiva.com/16212/ltst-c191krkt-16212419.pdf; ComponentLink5URL: https://datasheet.ciiva.com/2109/s-110-ltst-c191krkt-2109972.pdf; ComponentLink5Description: https://datasheet.ciiva.com/2109/s-110-ltst-c191krkt-2109972.pdf; ComponentLink6URL: https://datasheet.ciiva.com/15117/getdatasheetpartid-141922-15117737.pdf; ComponentLink6Description: https://datasheet.ciiva.com/15117/getdatasheetpartid-141922-15117737.pdf; ComponentLink7URL: https://datasheet.ciiva.com/12400/lite-on-ltst-c191krkt-190135-12400910.pdf; ComponentLink7Description: https://datasheet.ciiva.com/12400/lite-on-ltst-c191krkt-190135-12400910.pdf; Supplier Part Number 1: 160-1447-1-ND
footprint LED_0603
pins: 1, 2

## M20-9990246
designator JP?, comment 952-2262-ND
CONN_HeaderPins2pos Headers & Wire Housings 02 SIL VERTICAL PIN HEADER TIN; Manufacturer: Harwin; Manufacturer Part Number: M20-9990246; Contact Resistance: 30mR; Max Current Rating: 3A; Number of Positions: 2; Gender: Male; Connector Type: Male Pin; Insulation Resistance: 10GR; Voltage Rating (AC): 750V; Pitch: 2.54mm; Supplier 1: Digi-Key; Stock 1: 53577; Pricing 1: 1=0.11, 10=0.099, 100=0.0609, 500=0.0504, 1000=0.0441, 5000=0.0378, 10000=0.0368 (USD); Case/Package: SIL; Colour: Black; Housing Colour: Black; Housing Material: Nylon; Contact Plating: Tin; Contact Material: Bronze,Brass; Min Operating Temperature: -40°C; Max Operating Temperature: 105°C; Package Quantity: 1000; Packaging: Bulk; Termination: Solder; Number of Rows: 1; Number of Contacts: 2; Orientation: Straight; Current Rating: 3A; Length: 5.08mm; Depth: 2.54mm; Contact Mating Length: 0.24inch; Radiation Hardening: No; REACH SVHC: No SVHC; ComponentLink1URL: https://datasheet.ciiva.com/8046/315376-8046930.pdf; ComponentLink1Description: https://datasheet.ciiva.com/8046/315376-8046930.pdf; ComponentLink2URL: https://datasheet.ciiva.com/6833/m20-999-6833368.pdf; ComponentLink2Description: https://datasheet.ciiva.com/6833/m20-999-6833368.pdf; ComponentLink3URL: https://datasheet.ciiva.com/11745/0900766b81034e61-11745755.pdf; ComponentLink3Description: https://datasheet.ciiva.com/11745/0900766b81034e61-11745755.pdf; ComponentLink4URL: https://datasheet.ciiva.com/22660/1830818-22660571.pdf; ComponentLink4Description: https://datasheet.ciiva.com/22660/1830818-22660571.pdf; ComponentLink5URL: https://datasheet.ciiva.com/26852/getdatasheetpartid-384170-26852203.pdf; ComponentLink5Description: https://datasheet.ciiva.com/26852/getdatasheetpartid-384170-26852203.pdf; Supplier Part Number 1: 952-2262-ND
footprint 2PIN_HEADER
pins: 1, 2

## RC0402FR-0734K8L
designator R?, comment 34k8
RES SMD 34.8K OHM 1% 1/16W 0402; Manufacturer: Yageo; Manufacturer Part Number: RC0402FR-0734K8L; Resistance: 34.8kR; Power Rating: 62.5mW; Voltage Rating: 50V; Temperature Coefficient: 100ppm/°C; Max Power Dissipation: 63mW; Supplier 1: Digi-Key; Stock 1: 29900; Pricing 1: 1=0.1, 10=0.018, 100=0.0073, 1000=0.0033, 2500=0.0029, 5000=0.0024 (USD); Case/Package: 0402; Case Code (Imperial): 0402; Case Code (Metric): 1005; Contact Plating: Matte,Tin; Min Operating Temperature: -55°C; Max Operating Temperature: 155°C; Tolerance: 1%; Packaging: Tape and Reel; Composition: Thick Film; Number of Terminations: 2; Termination: SMD/SMT; Military Standard: Not; Voltage Rating (DC): 50V; Features: Moisture Resistant; Length: 1mm; Height: 0.016inch; Width: 0.02inch; Depth: 0.5mm; Lead Free: Lead Free; Supplier Part Number 1: YAG3125CT-ND
footprint R0402 (Chip Resistor, 2-Leads, Body 1.00x0.50mm, IPC Medium Density)
pins: 1, 2

## RC0402JR-070RL
designator R?, comment 0R
RES SMD 0 OHM 1/16W 0402; Manufacturer: Yageo; Manufacturer Part Number: RC0402JR-070RL; Resistance: 0mR; Power Rating: 62.5mW; Tolerance: 5%; Voltage Rating: 50V; Max Power Dissipation: 63mW; Temperature Coefficient: 200ppm/°C; Supplier 1: Digi-Key; Stock 1: 44333412; Pricing 1: 1=0.1, 10=0.017, 25=0.0124, 50=0.0096, 100=0.007, 250=0.0054, 500=0.0043, 1000=0.0032, 5000=0.0023 (USD); Case/Package: 0402; Contact Plating: Matte,Tin; Case Code (Metric): 1005; Case Code (Imperial): 0402; Min Operating Temperature: -55°C; Max Operating Temperature: 155°C; Packaging: Tape and Reel; Composition: Thick Film; Package Quantity: 1; Number of Terminations: 2; Termination: SMD/SMT; Military Standard: Not; Features: Moisture Resistant; Length: 1mm; Height: 0.016inch; Width: 0.02inch; Depth: 0.5mm; Radiation Hardening: No; REACH SVHC: Unknown; Lead Free: Lead Free; Supplier Part Number 1: 311-0.0JRCT-ND
footprint R0402 (Chip Resistor, 2-Leads, Body 1.00x0.50mm, IPC Medium Density)
pins: 1, 2

## RC0402JR-072K2L
designator R?, comment 2k2
RES SMD 2.2K OHM 5% 1/16W 0402; Manufacturer: Yageo; Manufacturer Part Number: RC0402JR-072K2L; Resistance: 2.2kR; Power Rating: 63mW; Voltage Rating: 50V; Temperature Coefficient: 100ppm/°C; Supplier 1: Digi-Key; Stock 1: 7890813; Pricing 1: 1=0.1, 10=0.018, 100=0.0073, 1000=0.0033, 2500=0.0029, 5000=0.0024 (USD); Case/Package: 0402; Weight: 2.3E-05oz; Case Code (Metric): 1005; Case Code (Imperial): 0402; Min Operating Temperature: -55°C; Max Operating Temperature: 155°C; Tolerance: 5%; Packaging: Tape and Reel; Composition: Thick Film; Termination: SMD/SMT; Military Standard: Not; Package Quantity: 1; Number of Terminations: 2; Max Power Dissipation: 63mW; Working Voltage: 50V; Features: Moisture Resistant; Length: 1mm; Height: 0.016inch; Depth: 0.5mm; Width: 0.02inch; REACH SVHC: Unknown; Lead Free: Lead Free; Supplier Part Number 1: 311-2.2KJRCT-ND
footprint R0402 (Chip Resistor, 2-Leads, Body 1.00x0.50mm, IPC Medium Density)
pins: 1, 2

## RC0402JR-0710KL
designator R?, comment 10k
RES SMD 10K OHM 5% 1/16W 0402; Manufacturer: Yageo; Manufacturer Part Number: RC0402JR-0710KL; Resistance: 10kR; Power Rating: 62.5mW; Voltage Rating: 50V; Temperature Coefficient: 100ppm/°C; Max Power Dissipation: 63mW; Supplier 1: Digi-Key; Stock 1: 47303622; Pricing 1: 1=0.1, 10=0.018, 100=0.0073, 1000=0.0033, 2500=0.0029, 5000=0.0024 (USD); Case/Package: 0402; Case Code (Metric): 1005; Case Code (Imperial): 0402; Min Operating Temperature: -55°C; Max Operating Temperature: 155°C; Packaging: Tape and Reel; Tolerance: 5%; Package Quantity: 1; Composition: Thick Film; Number of Terminations: 2; Termination: SMD/SMT; Military Standard: Not; Features: Moisture Resistant; Length: 1mm; Height: 0.016inch; Width: 0.02inch; Depth: 0.5mm; REACH SVHC: Unknown; Lead Free: Lead Free; Supplier Part Number 1: 311-10KJRCT-ND
footprint R0402 (Chip Resistor, 2-Leads, Body 1.00x0.50mm, IPC Medium Density)
pins: 1, 2

## RC0402JR-07100RL
designator R?, comment 100R
RES SMD 100 OHM 5% 1/16W 0402; Manufacturer: Yageo; Manufacturer Part Number: RC0402JR-07100RL; Power Rating: 63mW; Voltage Rating: 50V; Temperature Coefficient: 100ppm/°C; Supplier 1: Digi-Key; Stock 1: 447099; Pricing 1: 1=0.1, 10=0.015, 100=0.006, 1000=0.0027, 2500=0.0023, 5000=0.0019 (USD); Case/Package: 0402; Weight: 2.3E-05oz; Case Code (Metric): 1005; Case Code (Imperial): 0402; Min Operating Temperature: -55°C; Max Operating Temperature: 155°C; Resistance: 100R; Tolerance: 5%; Packaging: Tape and Reel; Package Quantity: 1; Composition: Thick Film; Number of Terminations: 2; Termination: SMD/SMT; Military Standard: Not; Max Power Dissipation: 63mW; Features: Moisture Resistant; Length: 1mm; Height: 0.016inch; Width: 0.02inch; Depth: 0.5mm; REACH SVHC: No SVHC; Lead Free: Lead Free; Supplier Part Number 1: 311-100JRCT-ND
footprint R0402 (Chip Resistor, 2-Leads, Body 1.00x0.50mm, IPC Medium Density)
pins: 1, 2

## RC0402JR-07120RL
designator *
RES SMD 120 OHM 5% 1/16W 0402; Manufacturer: Yageo; Manufacturer Part Number: RC0402JR-07120RL; Resistance: 120R; Power Rating: 63mW; Voltage Rating: 50V; Temperature Coefficient: 100ppm/°C; Supplier 1: Digi-Key; Stock 1: 1300603; Pricing 1: 1=0.1, 10=0.018, 100=0.0073, 1000=0.0033, 2500=0.0029, 5000=0.0024 (USD); Case/Package: 0402; Weight: 2.3E-05oz; Case Code (Metric): 1005; Case Code (Imperial): 0402; Min Operating Temperature: -55°C; Max Operating Temperature: 155°C; Tolerance: 5%; Package Quantity: 1; Packaging: Tape and Reel; Composition: Thick Film; Number of Terminations: 2; Termination: SMD/SMT; Military Standard: Not; Max Power Dissipation: 63mW; Features: Moisture Resistant; Length: 1mm; Height: 0.016inch; Width: 0.02inch; Depth: 0.5mm; REACH SVHC: Unknown; Lead Free: Lead Free; Supplier Part Number 1: 311-120JRCT-ND
footprint R0402 (Chip Resistor, 2-Leads, Body 1.00x0.50mm, IPC Medium Density)
pins: 1, 2

## SIR182DP-T1-RE3
designator Q?
Manufacturer: Vishay Siliconix; Supplier 1: Digi-Key; Manufacturer Part Number: SIR182DP-T1-RE3; Stock 1: 5803; Pricing 1: 1=1.97, 10=1.778, 100=1.4285, 500=1.1111, 1000=0.9206 (USD); Supplier Part Number 1: SIR182DP-T1-RE3CT-ND
footprint SO-8 PowerPAK
pins: 1, 2, 3

## SIR186DP-T1-RE3
designator Q?
MOSFET N-CH 60V 60A 4.5mOhm Rds(ON); Manufacturer: Vishay Siliconix; Supplier 1: Digi-Key; Manufacturer Part Number: SIR186DP-T1-RE3; Stock 1: 4321; Pricing 1: 1=1.45, 10=1.28, 100=1.0118, 500=0.7847, 1000=0.6195 (USD); Supplier Part Number 1: SIR186DP-T1-RE3CT-ND
footprint SO-8 PowerPAK
pins: 1, 2, 3

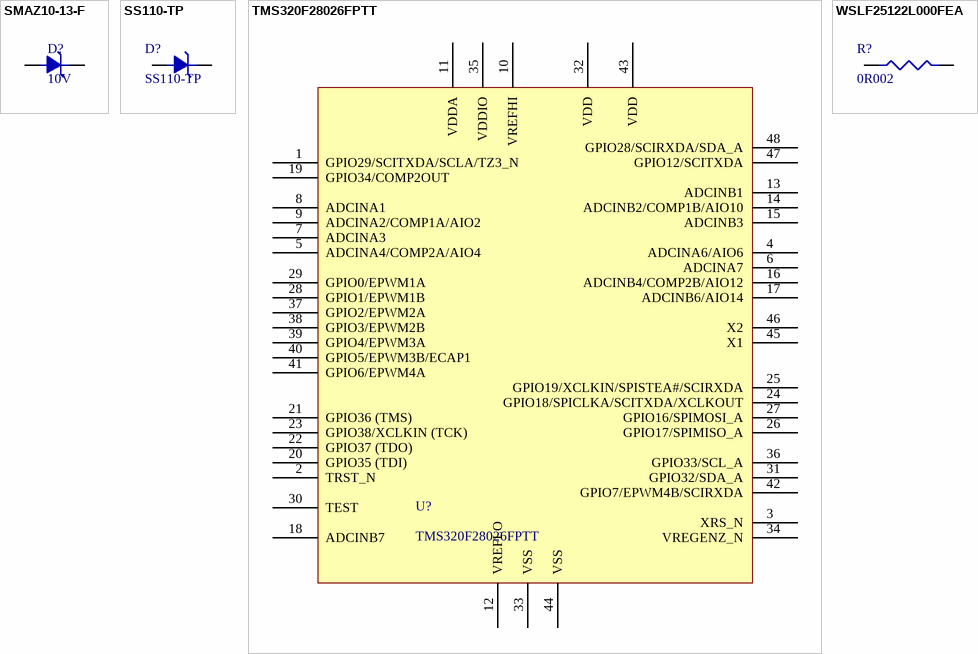
[diagram p1: symbols SMAZ10-13-F to WSLF25122L000FEA]

## SMAZ10-13-F
designator D?, comment 10V
DIODE ZENER 10V 5% 1W 2-Pin SMA T/R; Manufacturer: Diodes; Manufacturer Part Number: SMAZ10-13-F; Forward Voltage: 1.2V; Zener Current: 1uA; Impedance: 4R; Test Current: 50mA; Element Configuration: Single; Supplier 1: Digi-Key; Stock 1: 86916; Pricing 1: 1=0.53, 10=0.397, 100=0.2476, 500=0.1694, 1000=0.1303 (USD); Mount: Surface Mount; Case/Package: SMA; Number of Pins: 2; Weight: 0.002258oz; Min Operating Temperature: -65°C; Max Operating Temperature: 150°C; Packaging: Tape and Reel; Package Quantity: 5000; Tolerance: 5%; Zener Voltage: 10V; Max Power Dissipation: 1W; Voltage Tolerance: 5%; Peak Reverse Current: 1uA; Power Dissipation: 1W; Max Reverse Leakage Current: 1uA; Working Voltage: 10V; Power Rating: 1W; Voltage Rating (DC): 10V; Length: 4.6mm; Height: 2.09mm; Width: 2.92mm; Radiation Hardening: No; Lead Free: Lead Free; ComponentLink1URL: http://www.diodes.com//datasheets/ds18015.pdf; ComponentLink1Description: http://www.diodes.com//datasheets/ds18015.pdf; Supplier Part Number 1: SMAZ10-FDICT-ND
footprint DO-214AC (Molded Diode, 2-Leads, Body 4.30x2.60mm, IPC Medium Density)
pins: 1, 2

## SS110-TP
designator D?
DIODE SCHOTTKY 100V 1A SMA; Manufacturer: MCC; Forward Voltage: 850mV; Max Surge Current: 30A; Peak Reverse Current: 20mA; Max Reverse Leakage Current: 500uA; Element Configuration: Single; Polarity: Standard; Capacitance: 30pF; Supplier 1: Digi-Key; Manufacturer Part Number: SS110-TP; Stock 1: 56746; Pricing 1: 1=0.41, 10=0.292, 100=0.172, 500=0.0973, 1000=0.0746 (USD); Mount: Surface Mount; Case/Package: SMA; Number of Pins: 2; Min Operating Temperature: -55°C; Max Operating Temperature: 125°C; Packaging: Tape and Reel; Forward Current: 1A; Package Quantity: 1; Average Rectified Current: 1A; Peak Non-Repetitive Surge Current: 30A; Max Repetitive Reverse Voltage (Vrrm): 100V; Max Forward Surge Current (Ifsm): 30A; Voltage Rating (DC): 100V; Current Rating: 1A; Output Current: 1A; Max Reverse Voltage (DC): 100V; Length: 4.57mm; Height: 2.44mm; Width: 2.84mm; Radiation Hardening: No; REACH SVHC: Unknown; Lead Free: Lead Free; ComponentLink1URL: https://datasheet.ciiva.com/7963/1684859-7963319.pdf; ComponentLink1Description: https://datasheet.ciiva.com/7963/1684859-7963319.pdf; ComponentLink2URL: https://datasheet.ciiva.com/16742/ss12-ss110hsma-16742536.pdf; ComponentLink2Description: https://datasheet.ciiva.com/16742/ss12-ss110hsma-16742536.pdf; ComponentLink3URL: https://datasheet.ciiva.com/912/ss12-ss110hsma-912300.pdf; ComponentLink3Description: https://datasheet.ciiva.com/912/ss12-ss110hsma-912300.pdf; ComponentLink4URL: https://datasheet.ciiva.com/912/ss12-ss110hsma-912301.pdf; ComponentLink4Description: https://datasheet.ciiva.com/912/ss12-ss110hsma-912301.pdf; ComponentLink5URL: https://datasheet.ciiva.com/28382/1684859-28382109.pdf; ComponentLink5Description: https://datasheet.ciiva.com/28382/1684859-28382109.pdf; ComponentLink6URL: https://datasheet.ciiva.com/912/ss12-ss110hsma-912302.pdf; ComponentLink6Description: https://datasheet.ciiva.com/912/ss12-ss110hsma-912302.pdf; Supplier Part Number 1: SS110-TPCT-ND
footprint DO-214AA_Diode (Molded Diode, 2-Leads, Body 5.33x3.62mm, IPC Medium Density)
pins: 1, 2